# Altium schematic symbol library Jacdac.SchLib: 1 symbol
Pins are listed as number, name and electrical type; pins without a type are passive.

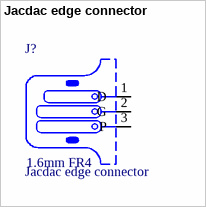
[diagram p0: symbol Jacdac edge connector]

## Jacdac edge connector
designator J?  PCB Type: 1.6mm FR4  (no BOM)
3 pin Jacdac edge connector 1.27mm pitch; Manufacturer Part Number: JACDAC_EDGE_CONNECTOR; Checked By: S. Hodges; Created By: D. Gakure; ComponentLink1Description: Yuliang Jacdac cable connector drawing online; ComponentLink1URL: https://github.com/microsoft/jacdac-mdk/blob/main/connector/JACDAC-Connector-by-Yuliang-2020-11-28.pdf; ComponentLink2Description: Jacdac PCB edge connector spec onlin; ComponentLink2URL: https://github.com/microsoft/jacdac-mdk/blob/main/connector/JACDAC_PCB_Edge_Connector_Drawing_JD-PEC-01_rev_01.pdf
footprint JACDAC_EDGE_CONNECTOR_0.2MM_GAP (Jacdac 3 pin connector with traces for 0.2mm gap)
footprint JACDAC_EDGE_CONNECTOR_0.15MM_GAP (Jacdac 3 pin connector with traces for 0.15mm gap)
footprint JACDAC_EDGE_CONNECTOR_WITH_HOLES_5MM (Jacdac 3 pin connector with two mounting holes (deprecated0)
footprint JACDAC_EDGE_CONNECTOR_NO_TRACES_CABLE_CONNECTOR (Jacdac 3 pin connector with no traces but with plastic connector body)
footprint JACDAC_EDGE_CONNECTOR_NO_TRACES (Jacdac 3 pin connector with no traces)
pins: 1 D, 2 G, 3 P